# Altium footprint library Capacitors.PcbLib: 81 footprints (part 1 of 6)
Each footprint in its own frame and in the unit in brackets; x right, y up, seen from the top. Pads: shape width x height; smd on the part's side, far side on the other; paste and mask are expansions set on the pad; w line width, h text height; cw(c..) or ccw(c..) is an arc to the next point about the centre after c.
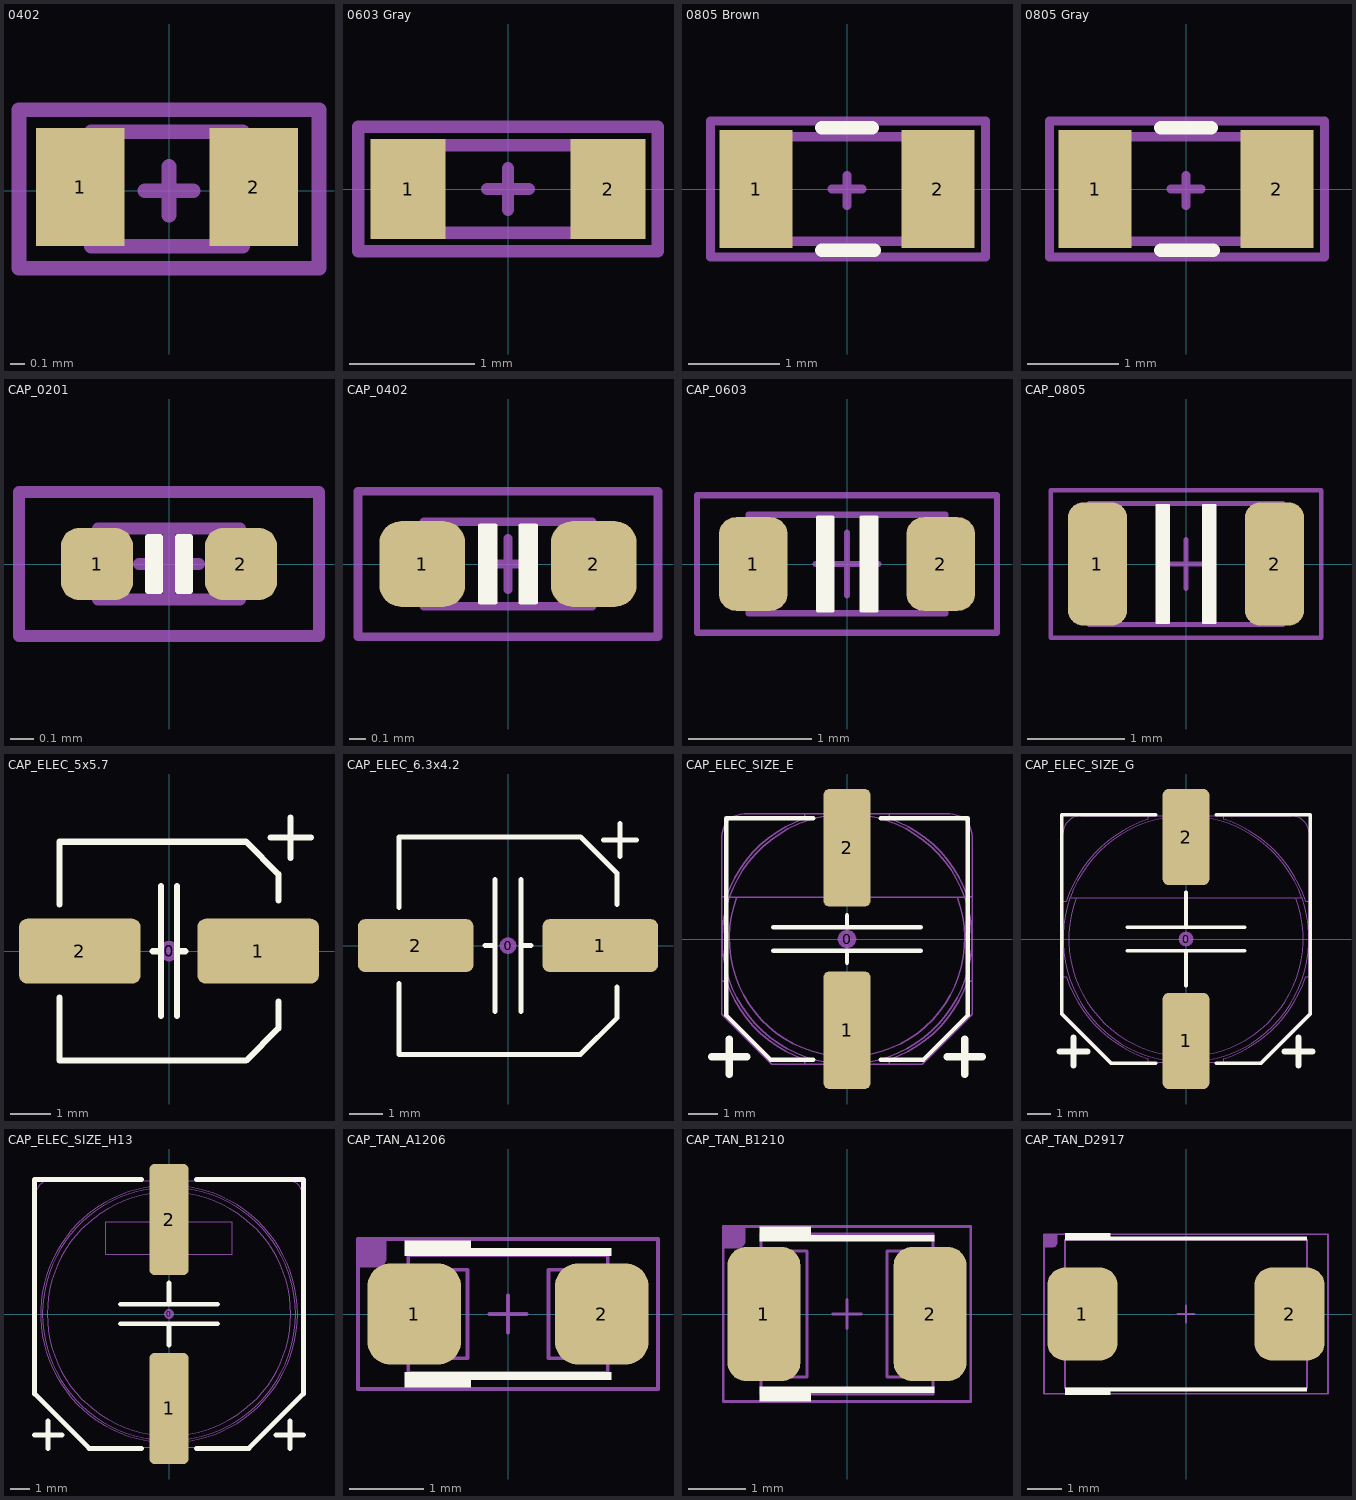
[diagram p0: the footprints below, top view; thin cyan lines are the x and y axes]

## 0402 [mm] "Empaque SMD0403 Azul"
pads (2):
  rect 0.6x0.8 smd: 1(-0.6,0.025) 2(0.575,0.025)
Mechanical 13:
  lines w0.1: -0.525,-0.375 -0.525,0.4 0.5,0.4 0.5,-0.375 -0.525,-0.375
Mechanical 15:
  lines w0.1: -0.165,0 0.165,0 ; 0,-0.165 0,0.165 ; -1.016,-0.525 -1.016,0.55 1.016,0.55 1.016,-0.525 -1.016,-0.525
3D body "0402 SMD Capacitor.STEP": height 0.2, standoff 0, extent -0.5,-0.275 0.5,0.325

## 0603 Gray [mm] "Empaque SMD 0603 Gris"
pads (2):
  rect 0.6x0.8 smd: 1(-0.8,0) 2(0.8,0)
Mechanical 13:
  lines w0.1: -0.8,-0.35 0.8,-0.35 0.8,0.35 -0.8,0.35 -0.8,-0.35
Mechanical 15:
  lines w0.1: -0.165,0 0.165,0 ; 0,-0.165 0,0.165 ; -1.2,-0.5 1.2,-0.5 1.2,0.5 -1.2,0.5 -1.2,-0.5
3D body "CapCeramic_Kemet_0603_1608.STEP": height 0.8, standoff 0, extent -0.8,-0.4 0.8,0.4

## 0805 Brown [mm] "Empaque SMD 0805 Gris"
pads (2):
  rect 0.8x1.3 smd: 1(-1,0) 2(1,0)
Top Overlay:
  lines w0.15: -0.275,-0.675 0.3,-0.675 ; -0.275,0.675 0.275,0.675
Mechanical 13:
  lines w0.1: -1,-0.575 1,-0.575 1,0.575 -1,0.575 -1,-0.575
Mechanical 15:
  lines w0.1: -0.165,0 0.165,0 ; 0,-0.18 0,0.15 ; -1.5,-0.75 1.525,-0.75 1.525,0.75 -1.5,0.75 -1.5,-0.75
3D body "0805 SMD Capacitor.step": height 0.78, standoff 0, extent -1.016,-0.635 0.984,0.615

## 0805 Gray [mm] "Empaque SMD 0805 Gris"
pads (2):
  rect 0.8x1.3 smd: 1(-1,0) 2(1,0)
Top Overlay:
  lines w0.15: -0.275,-0.675 0.3,-0.675 ; -0.275,0.675 0.275,0.675
Mechanical 13:
  lines w0.1: -1,-0.575 -1,0.575 1,0.575 1,-0.575 -1,-0.575
Mechanical 15:
  lines w0.1: -0.165,0 0.165,0 ; 0,-0.18 0,0.15 ; -1.5,-0.75 -1.5,0.75 1.525,0.75 1.525,-0.75 -1.5,-0.75
3D body "RESISTOR 0805-DEFAULT.STEP": height 0.43, standoff -0.03, extent -1.025,-0.575 0.975,0.685

## CAP_0201 [mil]
height 15.75
pads (2):
  rrect50% 12x12 smd: 1(-12,0) 2(12,0)
Top Overlay:
  region: 3.5,4.5 3.5,-4.5 1.5,-4.5 1.5,4.5
  region: -3.5,-4.5 -3.5,4.5 -1.5,4.5 -1.5,-4.5
  lines w1: -3.5,-4.5 -3.5,4.5 -1.5,4.5 -1.5,-4.5 -3.5,-4.5 ; 1.5,-4.5 3.5,-4.5 3.5,4.5 1.5,4.5 1.5,-4.5
Mechanical 13:
  lines w2: -5,0 5,0 ; 0,-5 0,5 ; -11.81,-5.91 11.81,-5.91 11.81,5.91 -11.81,5.91 -11.81,-5.91
Mechanical 14:
  lines w2: -25,-12 25,-12 25,12 -25,12 -25,-12
  text ".Designator" at -13,-8 h30
3D body "CAPC0603X03L.step": height 11.81, standoff 0, extent -11.81,-5.9 11.81,5.91

## CAP_0402 [mil]
height 21.65
pads (2):
  rrect50% 20x20 smd: 1(-20,0) 2(20,0)
Top Overlay:
  region: 6.5,-9 3,-9 3,9 6.5,9
  region: -6.5,9 -3,9 -3,-9 -6.5,-9
  lines w1: -6.5,-9 -6.5,9 -3,9 -3,-9 -6.5,-9 ; 3,-9 6.5,-9 6.5,9 3,9 3,-9
Mechanical 13:
  lines w2: -6,0 6,0 ; 0,-6 0,6 ; -19.69,-9.84 19.68,-9.84 19.68,9.84 -19.69,9.84 -19.69,-9.84
Mechanical 14:
  lines w2: -35,-17 35,-17 35,17 -35,17 -35,-17
  text ".Designator" at -15,-10 h40
3D body "CAPC1005X05L.step": height 19.68, standoff 0, extent -19.68,-9.84 19.69,9.85

## CAP_0603 [mil]
height 31.5
pads (2):
  rrect50% 22x30 smd: 1(-30,0) 2(30,0)
Top Overlay:
  region: 4.5,-15 9.5,-15 9.5,15 4.5,15
  region: -4.5,15 -9.5,15 -9.5,-15 -4.5,-15
  lines w1: -9.5,-15 -4.5,-15 -4.5,15 -9.5,15 -9.5,-15 ; 4.5,-15 4.5,15 9.5,15 9.5,-15 4.5,-15
Mechanical 13:
  lines w2: -10,0 10,0 ; 0,-10 0,10 ; -31.5,-15.75 31.5,-15.75 31.5,15.75 -31.5,15.75 -31.5,-15.75
Mechanical 14:
  lines w2: -48,-22 48,-22 48,22 -48,22 -48,-22
  text ".Designator" at -25,-15 h60
3D body "CAPC1608X08L.step": height 31.5, standoff 0, extent -31.49,-15.74 31.5,15.75

## CAP_0805 [mil]
height 47.24
pads (2):
  rrect50% 24x50 smd: 1(-36,0) 2(36,0)
Top Overlay:
  region: -12,24 -7,24 -7,-24 -12,-24
  region: 12,-24 7,-24 7,24 12,24
  lines w1: -12,-24 -7,-24 -7,24 -12,24 -12,-24 ; 7,-24 7,24 12,24 12,-24 7,-24
Mechanical 13:
  lines w2: -10,0 10,0 ; 0,-10 0,10 ; -39.37,-24.61 -39.37,24.61 39.37,24.61 39.37,-24.61 -39.37,-24.61
Mechanical 14:
  lines w2: -55,-30 -55,30 55,30 55,-30 -55,-30
  text ".Designator" at -31,-20 h80
3D body "CAPC2012X10L.step": height 39.37, standoff 0, extent -39.37,-24.6 39.37,24.61

## CAP_ELEC_5x5.7 [mm] "Capacitor, polarized, aluminum can; 5x5.7mm DxH"
height 5.7
pads (3):
  round 0.508 on Mech15: 0(0,0)
  rrect25% 3x1.6 smd: 1(2.2,0) 2(-2.2,0)
Top Overlay:
  lines w0.152: -2.7,-1.15 -2.7,-2.7 1.9,-2.7 2.7,-1.9 2.7,-1.25 ; -2.7,1.15 -2.7,2.7 1.9,2.7 2.7,1.9 2.7,1.25 ; -0.4,0 -0.2,0 ; -0.2,-1.6 -0.2,1.6 ; 0.2,-1.6 0.2,1.6 ; 0.2,0 0.4,0 ; 2.5,2.8 3,2.8 3.5,2.8 ; 3,2.3 3,3.3
3D body "Cap, elec, 5x5.7_.STEP": height 5.7, standoff 0, extent -2.65,-2.65 2.65,2.65

## CAP_ELEC_6.3x4.2 [mm] "Capacitor, polarized, aluminum can; 6.3x4.2mm DxH"
height 4.2
pads (3):
  round 0.508 on Mech15: 0(0,0)
  rrect25% 3.5x1.6 smd: 1(2.8,0) 2(-2.8,0)
Top Overlay:
  lines w0.152: -3.3,-1.15 -3.3,-3.3 2.2,-3.3 3.3,-2.2 3.3,-1.25 ; -3.3,1.15 -3.3,3.3 2.2,3.3 3.3,2.2 3.3,1.25 ; -0.7,0 -0.5,0 ; -0.4,-2 -0.4,2 ; 0.4,-2 0.4,2 ; 0.5,0 0.7,0 ; 2.9,3.2 3.4,3.2 3.9,3.2 ; 3.4,2.7 3.4,3.7
3D body "Cap, elec, 6.3x4.2.STEP": height 4.23, standoff 0, extent -3.3,-3.3 3.3,3.3

## CAP_ELEC_SIZE_E [mm] "Capacitor, polarized, aluminum can; 8.0x6.2mm DxH"
height 6.2
pads (3):
  round 0.635 on Mech15: 0(0,0)
  rrect25% 1.6x4 smd: 1(0,-3.1) 2(0,3.1)
Top Overlay:
  lines w0.152: -2.5,-0.4 2.5,-0.4 ; -2.5,0.4 2.5,0.4 ; -1.15,-4.1 -2.6,-4.1 -4.1,-2.6 -4.1,4.1 -1.15,4.1 ; 0,-0.8 0,-0.4 ; 0,0.4 0,0.8 ; 1.15,-4.1 2.6,-4.1 4.1,-2.6 4.1,4.1 1.15,4.1
  lines w0.254: -4.6,-4 -3.4,-4 ; -4,-4.6 -4,-3.4 ; 3.4,-4 4.6,-4 ; 4,-4.6 4,-3.4
Mechanical 13:
  lines w0.05: -4.25,-1.436 -4.106,-1.436 ccw(c0,0) -1.436,-4.106 -1.436,-4.25 ; -4.25,1.436 -4.106,1.436 cw(c0,0) -1.436,4.106 -1.436,4.25 ; -4.005,1.417 cw(c0,0) 4.005,1.417 ; -3.741,1.417 ccw(c0,0) 3.741,1.417 ; -0.325,-4.25 -0.325,-4.75 0.325,-4.75 0.325,-4.25 ; -0.325,4.25 -0.325,4.75 0.325,4.75 0.325,4.25 ; 1.436,-4.25 1.436,-4.106 ccw(c0,0) 4.106,-1.436 4.25,-1.436 ; 1.436,4.25 1.436,4.106 cw(c0,0) 4.106,1.436 4.25,1.436 ; -4.25,-2.55 -2.55,-4.25 2.55,-4.25 4.25,-2.55 4.25,3.5 ccw(c3.5,3.5) 3.5,4.25 -3.5,4.25 ccw(c-3.5,3.5) -4.25,3.5 -4.25,-2.55 ; -4.007,1.417 ccw(c0,0) 4.007,1.417 -4.007,1.417
3D body "CAP Alum Elec Size E.STEP": height 6.5, standoff 0, extent -4.25,-4.75 4.25,4.75

## CAP_ELEC_SIZE_G [mm] "Capacitor, polarized, aluminum can; 10.0x10.2mm DxH"
height 10.2
pads (3):
  round 0.635 on Mech15: 0(0,0)
  rrect25% 2x4.1 smd: 1(0,-4.35) 2(0,4.35)
Top Overlay:
  lines w0.152: -2.5,-0.5 2.5,-0.5 ; -2.5,0.5 2.5,0.5 ; -1.3,-5.3 -3.2,-5.3 -5.3,-3.2 -5.3,5.3 -1.3,5.3 ; 0,-2 0,-0.5 ; 0,0.5 0,2 ; 1.3,-5.3 3.2,-5.3 5.3,-3.2 5.3,5.3 1.3,5.3
  lines w0.254: -5.4,-4.8 -4.2,-4.8 ; -4.8,-5.4 -4.8,-4.2 ; 4.2,-4.8 5.4,-4.8 ; 4.8,-5.4 4.8,-4.2
Mechanical 13:
  lines w0.05: -5.25,-1.601 -5.105,-1.601 ccw(c0,0) -1.601,-5.105 -1.601,-5.25 ; -5.25,1.601 -5.105,1.601 cw(c0,0) -1.601,5.105 -1.601,5.25 ; -4.948,1.75 cw(c0,0) 4.948,1.75 ; -4.684,1.75 ccw(c0,0) 4.684,1.75 ; -0.45,-5.25 -0.45,-6 0.45,-6 0.45,-5.25 ; -0.45,5.25 -0.45,6 0.45,6 0.45,5.25 ; 1.601,-5.25 1.601,-5.105 ccw(c0,0) 5.105,-1.601 5.25,-1.601 ; 1.601,5.25 1.601,5.105 cw(c0,0) 5.105,1.601 5.25,1.601 ; -5.25,-3.15 -5.25,4.5 cw(c-4.5,4.5) -4.5,5.25 4.5,5.25 cw(c4.5,4.5) 5.25,4.5 5.25,-3.15 3.15,-5.25 -3.15,-5.25 -5.25,-3.15 ; -4.95,1.75 ccw(c0,0) 4.95,1.75 -4.95,1.75
3D body "CAP Alum Elec Size G.STEP": height 10.5, standoff 0, extent -5.25,-6 5.25,6

## CAP_ELEC_SIZE_H13 [mm] "Capacitor, polarized, aluminum can; 12.5x13.5mm DxH"
height 13.5
pads (3):
  round 0.508 on Mech15: 0(0,0)
  rrect25% 2x5.7 smd: 1(0,-4.85) 2(0,4.85)
Top Overlay:
  lines w0.254: -6.9,-6.2 -5.5,-6.2 ; -6.2,-6.9 -6.2,-5.5 ; -2.5,-0.5 2.5,-0.5 ; -2.5,0.5 2.5,0.5 ; -1.4,-6.9 -4.1,-6.9 -6.9,-4.1 -6.9,6.9 -1.4,6.9 ; 0,-1.6 0,-0.5 ; 0,0.5 0,1.6 ; 1.4,-6.9 4.1,-6.9 6.9,-4.1 6.9,6.9 1.4,6.9 ; 5.5,-6.2 6.9,-6.2 ; 6.2,-6.9 6.2,-5.5
Mechanical 13:
  circle w0.05: c0,0 r6.25
  circle w0.05: c0,0 r6.5
  circle w0.05: c0,0 r6.6
  lines w0.05: -0.45,-6.85 -0.45,-7.5 0.45,-7.5 0.45,-6.85 ; -0.45,6.85 -0.45,7.5 0.45,7.5 0.45,6.85 ; -6.85,-4.11 -6.85,6.1 cw(c-6.1,6.1) -6.1,6.85 6.1,6.85 cw(c6.1,6.1) 6.85,6.1 6.85,-4.11 4.11,-6.85 -4.11,-6.85 -6.85,-4.11 ; -3.25,3.055 3.25,3.055 3.25,4.745 -3.25,4.745 -3.25,3.055
3D body "CAP Alum Elec Size H13.STEP": height 14, standoff 0, extent -6.85,-7.5 6.85,7.5

## CAP_TAN_A1206 [mil]
height 70.87
pads (2):
  rrect50% 50x54 smd: 1(-50,0) 2(50,0)
Top Overlay:
  region: 55,-35 -20,-35 -20,-39 -55,-39 -55,-31 55,-31
  region: 55,31 -55,31 -55,39 -20,39 -20,35 55,35
Mechanical 13:
  lines w2: -10,0 10,0 ; 0,-10 0,10 ; -63,-23.63 -63,23.62 -21.66,23.62 -21.66,-23.63 -63,-23.63 ; -53.16,-31.5 53.15,-31.5 53.15,31.5 -53.16,31.5 -53.16,-31.5 ; 21.65,-23.62 21.65,23.62 62.99,23.62 62.99,-23.62 21.65,-23.62
Mechanical 14:
  region: -80,40 -65,40 -65,30 -65,29.01 -65.76,27.17 -67.17,25.76 -69.01,25 -70,25 -80,25
  lines w2: -80,-40 80,-40 80,40 -80,40 -80,-40
3D body "CAPMP3216X180N.STEP": height 70.87, standoff 0, extent -62.99,-31.49 63,31.5

## CAP_TAN_B1210 [mil]
height 82.68
pads (2):
  rrect50% 50x92 smd: 1(-57,0) 2(57,0)
Top Overlay:
  region: 60,-54 -25,-54 -25,-60 -60,-60 -60,-50 60,-50
  region: 60,50 -60,50 -60,60 -25,60 -25,54 60,54
Mechanical 13:
  lines w2: -10,0 10,0 ; 0,-10 0,10 ; -68.89,-43.3 -68.89,43.31 -27.55,43.31 -27.55,-43.3 -68.89,-43.3 ; -59.06,-55.11 59.05,-55.11 59.05,55.12 -59.06,55.12 -59.06,-55.11 ; 27.56,-43.31 68.9,-43.31 68.9,43.31 27.56,43.31 27.56,-43.31
Mechanical 14:
  region: -85,60 -70,60 -70,50 -70,49.01 -70.76,47.17 -72.17,45.76 -74.01,45 -75,45 -85,45
  lines w2: -85,-60 -85,60 85,60 85,-60 -85,-60
3D body "CAPMP3528X210N.STEP": height 82.68, standoff 0, extent -68.89,-55.11 68.91,55.13

## CAP_TAN_D2917 [mil]
height 122.05
pads (2):
  rrect50% 80x106 smd: 1(-118,0) 2(118,0)
Top Overlay:
  region: 137.8,-88 -86.61,-88 -86.61,-92 -137.8,-92 -137.8,-84 137.8,-84
  region: 137.8,84 -137.8,84 -137.8,92 -86.61,92 -86.61,88 137.8,88
Mechanical 13:
  lines w2: -10,0 10,0 ; 0,-10 0,10 ; -143.7,-47.24 -143.7,47.24 -86.61,47.24 -86.61,-47.24 -143.7,-47.24 ; -137.8,-84.65 137.8,-84.65 137.8,84.65 -137.8,84.65 -137.8,-84.65 ; 86.61,-47.24 143.7,-47.24 143.7,47.24 86.61,47.24 86.61,-47.24
Mechanical 14:
  region: -162,91 -147,91 -147,81 -147,80.01 -147.76,78.17 -149.17,76.76 -151.01,76 -152,76 -162,76
  lines w2: -162,-91 162,-91 162,91 -162,91 -162,-91
3D body "CAPMP7343X310N.STEP": height 122.05, standoff 0, extent -149.6,-77.75 149.61,77.76